# EAGLE library part 10104110-0001LF (library ruark2)
USB - micro B USB 2.0 Receptacle Connector 5 Position Surface Mount, Right Angle
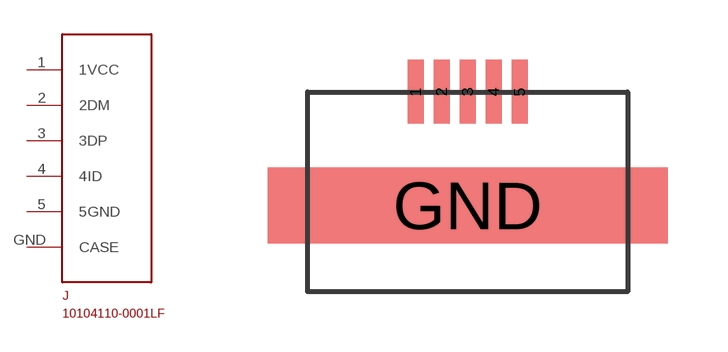
[diagram p72: symbol with the pads of MICRO_USB; footprint MICRO_USB]

Designator prefix J

## 10104110-0001LF (PARTNO: 609-4052-1-ND)  [MICRO_USB]
1  1VCC
2  2DM
3  3DP
4  4ID
5  5GND
GND  CASE

## Footprint MICRO_USB (pad centres in mm)
smd 0.4 x 1.6: 1 -1.3,0; 2 -0.65,0; 3 0,0; 4 0.65,0; 5 1.3,0
smd 10 x 1.9: GND 0,-2.84